# Altium schematic symbol library SCH - DRIVER - ITS428L2.SCHLIB: 1 symbol
Pins are listed as number, name and electrical type; pins without a type are passive.

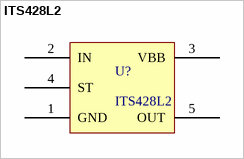
[diagram p0: symbol ITS428L2]

## ITS428L2
designator U?
Smart High-Side Power Switch for Industrial Applications 1 Channels: 1 x 60mOhm, 4.75 to 40 V Operating, -30 to 85 degC,
pins: 1 GND, 2 IN, 3 VBB, 4 ST, 5 OUT